# EAGLE library part SINGLE (library dec-con)
Single-Height DEC board
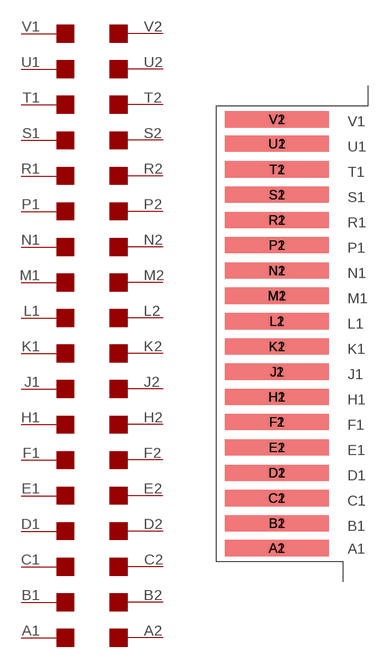
[diagram p8: symbol with the pads of EDGE-CON2; footprint EDGE-CON2]

Designator prefix -; gates L2=EDGE-RIGHT M2=EDGE-RIGHT N2=EDGE-RIGHT P2=EDGE-RIGHT R2=EDGE-RIGHT S2=EDGE-RIGHT T2=EDGE-RIGHT K2=EDGE-RIGHT J2=EDGE-RIGHT H2=EDGE-RIGHT F2=EDGE-RIGHT E2=EDGE-RIGHT D2=EDGE-RIGHT C2=EDGE-RIGHT U2=EDGE-RIGHT V2=EDGE-RIGHT B2=EDGE-RIGHT A2=EDGE-RIGHT K1=EDGE-LEFT L1=EDGE-LEFT M1=EDGE-LEFT N1=EDGE-LEFT P1=EDGE-LEFT R1=EDGE-LEFT S1=EDGE-LEFT T1=EDGE-LEFT U1=EDGE-LEFT V1=EDGE-LEFT J1=EDGE-LEFT H1=EDGE-LEFT F1=EDGE-LEFT E1=EDGE-LEFT D1=EDGE-LEFT C1=EDGE-LEFT B1=EDGE-LEFT A1=EDGE-LEFT

## SINGLE  [EDGE-CON2]
A1  A1:1  pas
A2  A2:1  pas
B1  B1:1  pas
B2  B2:1  pas
C1  C1:1  pas
C2  C2:1  pas
D1  D1:1  pas
D2  D2:1  pas
E1  E1:1  pas
E2  E2:1  pas
F1  F1:1  pas
F2  F2:1  pas
H1  H1:1  pas
H2  H2:1  pas
J1  J1:1  pas
J2  J2:1  pas
K1  K1:1  pas
K2  K2:1  pas
L1  L1:1  pas
L2  L2:1  pas
M1  M1:1  pas
M2  M2:1  pas
N1  N1:1  pas
N2  N2:1  pas
P1  P1:1  pas
P2  P2:1  pas
R1  R1:1  pas
R2  R2:1  pas
S1  S1:1  pas
S2  S2:1  pas
T1  T1:1  pas
T2  T2:1  pas
U1  U1:1  pas
U2  U2:1  pas
V1  V1:1  pas
V2  V2:1  pas

## Footprint EDGE-CON2 (pad centres in mm)
Double-Sided DEC Edge Connector
smd 13.017 x 2.032: A1 7.633,4.207; B1 7.639,7.327; C1 7.636,10.489; D1 7.633,13.665; E1 7.642,16.84; F1 7.642,20.041; H1 7.642,23.19; J1 7.642,26.34; K1 7.642,29.515; L1 7.642,32.69; M1 7.642,35.89; N1 7.642,39.04; P1 7.642,42.24; R1 7.642,45.39; S1 7.642,48.565; T1 7.642,51.74; U1 7.642,54.966; V1 7.642,58.026
smd 13.017 x 2.032 bottom: A2 7.614,4.207; B2 7.642,7.328; C2 7.617,10.49; D2 7.642,13.665; E2 7.642,16.84; F2 7.617,20.041; H2 7.617,23.19; J2 7.642,26.34; K2 7.642,29.515; L2 7.642,32.69; M2 7.642,35.89; N2 7.642,39.04; P2 7.642,42.24; R2 7.642,45.39; S2 7.642,48.565; T2 7.642,51.74; U2 7.642,54.966; V2 7.642,58.026